# Altium schematic symbol library capacitor_50.0v.SchLib: 1 symbol
Pins are listed as number, name and electrical type; pins without a type are passive.

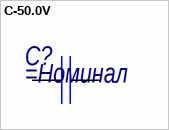
[diagram p0: symbol C-50.0V]

## C-50.0V
designator C?
=Описание
pins: 1, 2